# Altium integrated library Maxim Digital Potentiometers.IntLib: 1045 symbols (part 14 of 42)
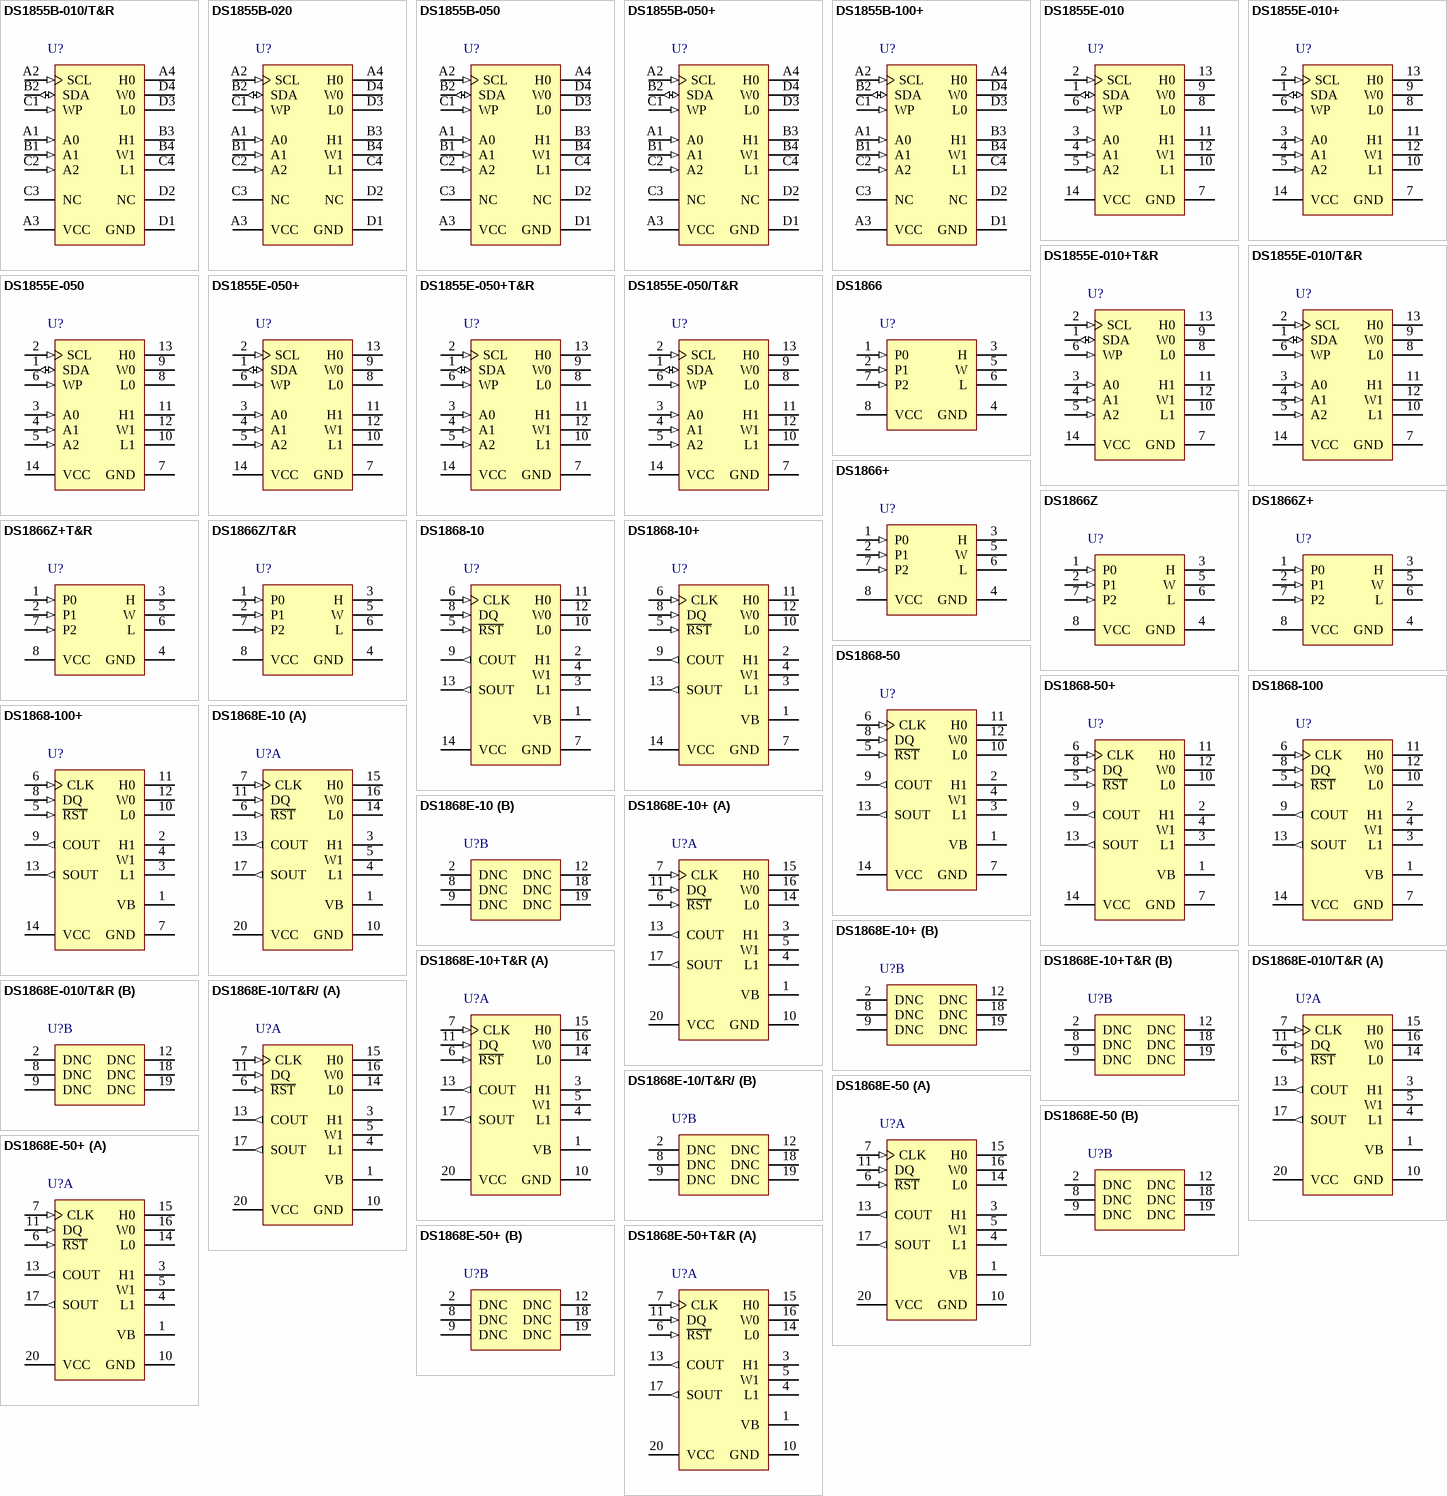
[diagram p42: symbols DS1855B-010/T&R to DS1868E-50+T&R]

## DS1868E-10+T&R
designator U?
Dual Digital Potentiometer Chip with 3-Wire Serial Control Interface, Volatile, Linear Taper, 256 Steps, -40 to 85 degC, 20-pin TSSOP (U20+1), Pb-Free, Tape and Reel; PartNumber: DS1868E-10+T&R; DatasheetVersion: Rev. 1; PackageVersion: Rev. L, 07/2010; PackageReference: U20+1; PackageDescription: 20-Pin Thin Shrink Small-Outline Package (U20+1), Body 6.5 x4.4 mm, Pitch 0.65 mm; Supplier 1: Digi-Key; Supplier Part Number 1: DS1868E-10+T&R-ND; Supplier 2: Mouser; Supplier Part Number 2: 700-DS1868E-10T&R; Control Interface: 3-Wire Serial; Mounting Technology: Surface Mount; Code_JEDEC: MO-153; ComponentLink1Description: Manufacturer URL; ComponentLink1URL: http://www.maximintegrated.com/; ComponentLink2Description: Datasheet; ComponentLink2URL: http://datasheets.maximintegrated.com/en/ds/DS1868.pdf; ComponentLink3Description: Package Specification; ComponentLink3URL: http://pdfserv.maximintegrated.com/package_dwgs/21-0066.PDF
footprint MAXM-U20+1_N (SOP, 20-Leads, Body 6.5x4.4mm, Pitch 0.65mm, IPC Medium Density)
footprint MAXM-U20+1_L (SOP, 20-Leads, Body 6.5x4.4mm, Pitch 0.65mm, IPC High Density)
footprint MAXM-U20+1_M (SOP, 20-Leads, Body 6.5x4.4mm, Pitch 0.65mm, IPC Low Density)
part A pins: 1 VB (power) "Substrate Bias Voltage", 3 H1 "High End of Resistor", 4 L1 "Low End of Resistor", 5 W1 "Wiper Terminal of Resistor", 6 ~{RST} (in) "Serial Port Reset Input", 7 CLK (in) "Serial Port Clock Input", 10 GND (power) "Ground Connections", 11 DQ (in) "Serial Port Data Input", 13 COUT (out) "Cascade Port Output", 14 L0 "Low End of Resistor", 15 H0 "High End of Resistor", 16 W0 "Wiper Terminal of Resistor", 17 SOUT (out) "Stacked Configuration Output", 20 VCC (power) "+5 Volt Supply"
part B pins: 2 DNC "Do Not Connect", 8 DNC "Do Not Connect", 9 DNC "Do Not Connect", 12 DNC "Do Not Connect", 18 DNC "Do Not Connect", 19 DNC "Do Not Connect"

## DS1868E-010/T&R
designator U?
Dual Digital Potentiometer Chip with 3-Wire Serial Control Interface, Volatile, Linear Taper, 256 Steps, -40 to 85 degC, 20-pin TSSOP (U20-1), Tape and Reel; PartNumber: DS1868E-010/T&R; DatasheetVersion: Rev. 1; PackageVersion: Rev. L, 07/2010; PackageReference: U20-1; PackageDescription: 20-Pin Thin Shrink Small-Outline Package (U20-1), Body 6.5 x 4.4 mm, Pitch 0.65 mm; Supplier 1: Digi-Key; Supplier Part Number 1: DS1868E-010/T&R-ND; Supplier 2: Mouser; Supplier Part Number 2: N/A; Control Interface: 3-Wire Serial; Mounting Technology: Surface Mount; Code_JEDEC: MO-153; ComponentLink1Description: Manufacturer URL; ComponentLink1URL: http://www.maximintegrated.com/; ComponentLink2Description: Datasheet; ComponentLink2URL: http://datasheets.maximintegrated.com/en/ds/DS1868.pdf; ComponentLink3Description: Package Specification; ComponentLink3URL: http://pdfserv.maximintegrated.com/package_dwgs/21-0066.PDF
footprint MAXM-U20-1_N (SOP, 20-Leads, Body 6.5x4.40mm, Pitch 0.65mm, IPC Medium Density)
footprint MAXM-U20-1_L (SOP, 20-Leads, Body 6.5x4.40mm, Pitch 0.65mm, IPC High Density)
footprint MAXM-U20-1_M (SOP, 20-Leads, Body 6.5x4.40mm, Pitch 0.65mm, IPC Low Density)
part A pins: 1 VB (power) "Substrate Bias Voltage", 3 H1 "High End of Resistor", 4 L1 "Low End of Resistor", 5 W1 "Wiper Terminal of Resistor", 6 ~{RST} (in) "Serial Port Reset Input", 7 CLK (in) "Serial Port Clock Input", 10 GND (power) "Ground Connections", 11 DQ (in) "Serial Port Data Input", 13 COUT (out) "Cascade Port Output", 14 L0 "Low End of Resistor", 15 H0 "High End of Resistor", 16 W0 "Wiper Terminal of Resistor", 17 SOUT (out) "Stacked Configuration Output", 20 VCC (power) "+5 Volt Supply"
part B pins: 2 DNC "Do Not Connect", 8 DNC "Do Not Connect", 9 DNC "Do Not Connect", 12 DNC "Do Not Connect", 18 DNC "Do Not Connect", 19 DNC "Do Not Connect"

## DS1868E-10/T&R/
designator U?
Dual Digital Potentiometer Chip with 3-Wire Serial Control Interface, Volatile, Linear Taper, 256 Steps, -40 to 85 degC, 20-pin TSSOP (U20-1), Tape and Reel; PartNumber: DS1868E-10/T&R/; DatasheetVersion: Rev. 1; PackageVersion: Rev. L, 07/2010; PackageReference: U20-1; PackageDescription: 20-Pin Thin Shrink Small-Outline Package (U20-1), Body 6.5 x 4.4 mm, Pitch 0.65 mm; Control Interface: 3-Wire Serial; Mounting Technology: Surface Mount; Code_JEDEC: MO-153; ComponentLink1Description: Manufacturer URL; ComponentLink1URL: http://www.maximintegrated.com/; ComponentLink2Description: Datasheet; ComponentLink2URL: http://datasheets.maximintegrated.com/en/ds/DS1868.pdf; ComponentLink3Description: Package Specification; ComponentLink3URL: http://pdfserv.maximintegrated.com/package_dwgs/21-0066.PDF
footprint MAXM-U20-1_N (SOP, 20-Leads, Body 6.5x4.40mm, Pitch 0.65mm, IPC Medium Density)
footprint MAXM-U20-1_L (SOP, 20-Leads, Body 6.5x4.40mm, Pitch 0.65mm, IPC High Density)
footprint MAXM-U20-1_M (SOP, 20-Leads, Body 6.5x4.40mm, Pitch 0.65mm, IPC Low Density)
part A pins: 1 VB (power) "Substrate Bias Voltage", 3 H1 "High End of Resistor", 4 L1 "Low End of Resistor", 5 W1 "Wiper Terminal of Resistor", 6 ~{RST} (in) "Serial Port Reset Input", 7 CLK (in) "Serial Port Clock Input", 10 GND (power) "Ground Connections", 11 DQ (in) "Serial Port Data Input", 13 COUT (out) "Cascade Port Output", 14 L0 "Low End of Resistor", 15 H0 "High End of Resistor", 16 W0 "Wiper Terminal of Resistor", 17 SOUT (out) "Stacked Configuration Output", 20 VCC (power) "+5 Volt Supply"
part B pins: 2 DNC "Do Not Connect", 8 DNC "Do Not Connect", 9 DNC "Do Not Connect", 12 DNC "Do Not Connect", 18 DNC "Do Not Connect", 19 DNC "Do Not Connect"

## DS1868E-50
designator U?
Dual Digital Potentiometer Chip with 3-Wire Serial Control Interface, Volatile, Linear Taper, 256 Steps, -40 to 85 degC, 20-pin TSSOP (U20-1); PartNumber: DS1868E-50; DatasheetVersion: Rev. 1; PackageVersion: Rev. L, 07/2010; PackageReference: U20-1; PackageDescription: 20-Pin Thin Shrink Small-Outline Package (U20-1), Body 6.5 x 4.4 mm, Pitch 0.65 mm; Supplier 1: Digi-Key; Supplier Part Number 1: DS1868E-50-ND; Supplier 2: Mouser; Supplier Part Number 2: N/A; Control Interface: 3-Wire Serial; Mounting Technology: Surface Mount; Code_JEDEC: MO-153; ComponentLink1Description: Manufacturer URL; ComponentLink1URL: http://www.maximintegrated.com/; ComponentLink2Description: Datasheet; ComponentLink2URL: http://datasheets.maximintegrated.com/en/ds/DS1868.pdf; ComponentLink3Description: Package Specification; ComponentLink3URL: http://pdfserv.maximintegrated.com/package_dwgs/21-0066.PDF
footprint MAXM-U20-1_N (SOP, 20-Leads, Body 6.5x4.40mm, Pitch 0.65mm, IPC Medium Density)
footprint MAXM-U20-1_L (SOP, 20-Leads, Body 6.5x4.40mm, Pitch 0.65mm, IPC High Density)
footprint MAXM-U20-1_M (SOP, 20-Leads, Body 6.5x4.40mm, Pitch 0.65mm, IPC Low Density)
part A pins: 1 VB (power) "Substrate Bias Voltage", 3 H1 "High End of Resistor", 4 L1 "Low End of Resistor", 5 W1 "Wiper Terminal of Resistor", 6 ~{RST} (in) "Serial Port Reset Input", 7 CLK (in) "Serial Port Clock Input", 10 GND (power) "Ground Connections", 11 DQ (in) "Serial Port Data Input", 13 COUT (out) "Cascade Port Output", 14 L0 "Low End of Resistor", 15 H0 "High End of Resistor", 16 W0 "Wiper Terminal of Resistor", 17 SOUT (out) "Stacked Configuration Output", 20 VCC (power) "+5 Volt Supply"
part B pins: 2 DNC "Do Not Connect", 8 DNC "Do Not Connect", 9 DNC "Do Not Connect", 12 DNC "Do Not Connect", 18 DNC "Do Not Connect", 19 DNC "Do Not Connect"

## DS1868E-50+
designator U?
Dual Digital Potentiometer Chip with 3-Wire Serial Control Interface, Volatile, Linear Taper, 256 Steps, -40 to 85 degC, 20-pin TSSOP (U20+1), Pb-Free; PartNumber: DS1868E-50+; DatasheetVersion: Rev. 1; PackageVersion: Rev. L, 07/2010; PackageReference: U20+1; PackageDescription: 20-Pin Thin Shrink Small-Outline Package (U20+1), Body 6.5 x4.4 mm, Pitch 0.65 mm; Supplier 1: Digi-Key; Supplier Part Number 1: DS1868E-50+-ND; Supplier 2: Mouser; Supplier Part Number 2: 700-DS1868E-50; Control Interface: 3-Wire Serial; Mounting Technology: Surface Mount; Code_JEDEC: MO-153; ComponentLink1Description: Manufacturer URL; ComponentLink1URL: http://www.maximintegrated.com/; ComponentLink2Description: Datasheet; ComponentLink2URL: http://datasheets.maximintegrated.com/en/ds/DS1868.pdf; ComponentLink3Description: Package Specification; ComponentLink3URL: http://pdfserv.maximintegrated.com/package_dwgs/21-0066.PDF
footprint MAXM-U20+1_N (SOP, 20-Leads, Body 6.5x4.4mm, Pitch 0.65mm, IPC Medium Density)
footprint MAXM-U20+1_L (SOP, 20-Leads, Body 6.5x4.4mm, Pitch 0.65mm, IPC High Density)
footprint MAXM-U20+1_M (SOP, 20-Leads, Body 6.5x4.4mm, Pitch 0.65mm, IPC Low Density)
part A pins: 1 VB (power) "Substrate Bias Voltage", 3 H1 "High End of Resistor", 4 L1 "Low End of Resistor", 5 W1 "Wiper Terminal of Resistor", 6 ~{RST} (in) "Serial Port Reset Input", 7 CLK (in) "Serial Port Clock Input", 10 GND (power) "Ground Connections", 11 DQ (in) "Serial Port Data Input", 13 COUT (out) "Cascade Port Output", 14 L0 "Low End of Resistor", 15 H0 "High End of Resistor", 16 W0 "Wiper Terminal of Resistor", 17 SOUT (out) "Stacked Configuration Output", 20 VCC (power) "+5 Volt Supply"
part B pins: 2 DNC "Do Not Connect", 8 DNC "Do Not Connect", 9 DNC "Do Not Connect", 12 DNC "Do Not Connect", 18 DNC "Do Not Connect", 19 DNC "Do Not Connect"

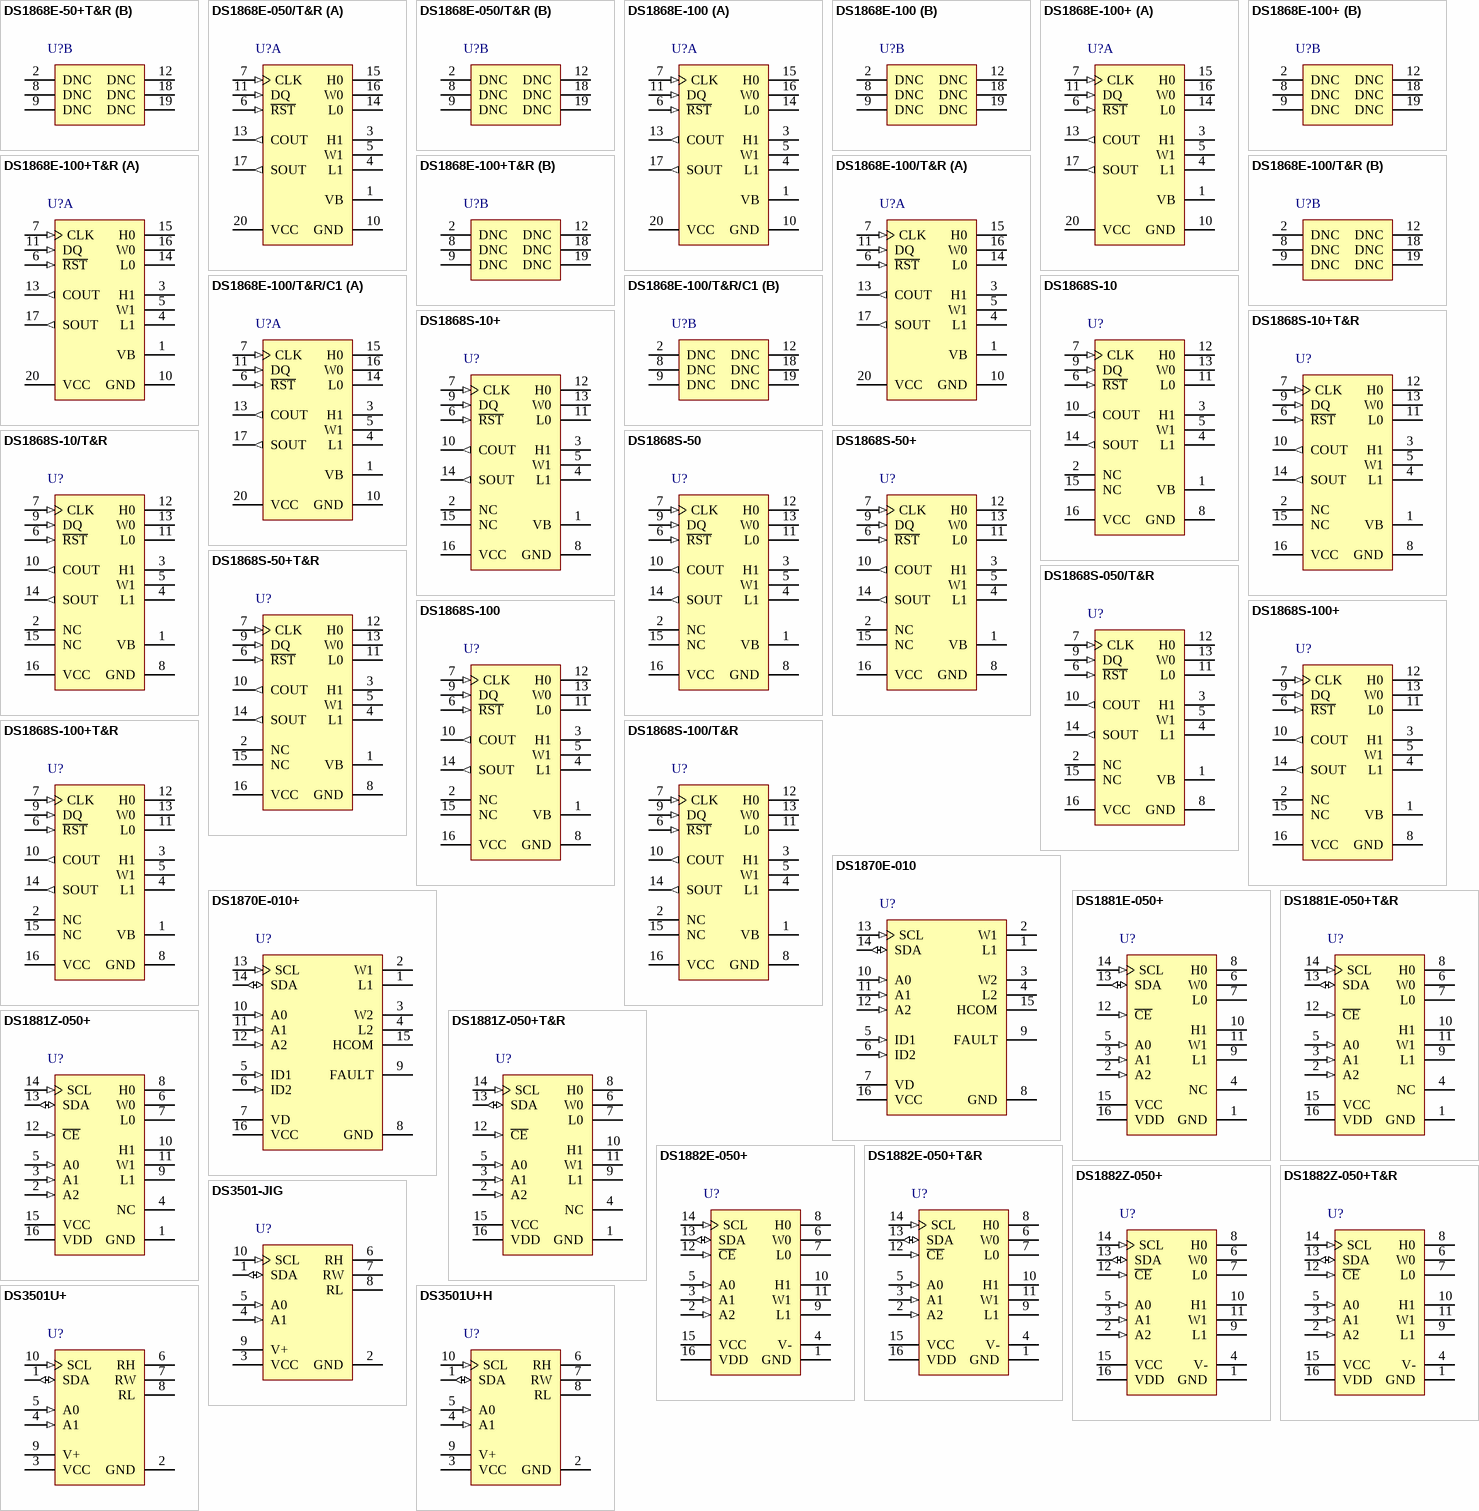
[diagram p10: symbols DS1868E-50+T&R to DS3501U+H]

## DS1868E-50+T&R
designator U?
Dual Digital Potentiometer Chip with 3-Wire Serial Control Interface, Volatile, Linear Taper, 256 Steps, -40 to 85 degC, 20-pin TSSOP (U20+1), Pb-Free, Tape and Reel; PartNumber: DS1868E-50+T&R; DatasheetVersion: Rev. 1; PackageVersion: Rev. L, 07/2010; PackageReference: U20+1; PackageDescription: 20-Pin Thin Shrink Small-Outline Package (U20+1), Body 6.5 x4.4 mm, Pitch 0.65 mm; Supplier 1: Digi-Key; Supplier Part Number 1: DS1868E-50+T&R-ND; Supplier 2: Mouser; Supplier Part Number 2: 700-DS1868E-50T&R; Control Interface: 3-Wire Serial; Mounting Technology: Surface Mount; Code_JEDEC: MO-153; ComponentLink1Description: Manufacturer URL; ComponentLink1URL: http://www.maximintegrated.com/; ComponentLink2Description: Datasheet; ComponentLink2URL: http://datasheets.maximintegrated.com/en/ds/DS1868.pdf; ComponentLink3Description: Package Specification; ComponentLink3URL: http://pdfserv.maximintegrated.com/package_dwgs/21-0066.PDF
footprint MAXM-U20+1_N (SOP, 20-Leads, Body 6.5x4.4mm, Pitch 0.65mm, IPC Medium Density)
footprint MAXM-U20+1_L (SOP, 20-Leads, Body 6.5x4.4mm, Pitch 0.65mm, IPC High Density)
footprint MAXM-U20+1_M (SOP, 20-Leads, Body 6.5x4.4mm, Pitch 0.65mm, IPC Low Density)
part A pins: 1 VB (power) "Substrate Bias Voltage", 3 H1 "High End of Resistor", 4 L1 "Low End of Resistor", 5 W1 "Wiper Terminal of Resistor", 6 ~{RST} (in) "Serial Port Reset Input", 7 CLK (in) "Serial Port Clock Input", 10 GND (power) "Ground Connections", 11 DQ (in) "Serial Port Data Input", 13 COUT (out) "Cascade Port Output", 14 L0 "Low End of Resistor", 15 H0 "High End of Resistor", 16 W0 "Wiper Terminal of Resistor", 17 SOUT (out) "Stacked Configuration Output", 20 VCC (power) "+5 Volt Supply"
part B pins: 2 DNC "Do Not Connect", 8 DNC "Do Not Connect", 9 DNC "Do Not Connect", 12 DNC "Do Not Connect", 18 DNC "Do Not Connect", 19 DNC "Do Not Connect"

## DS1868E-050/T&R
designator U?
Dual Digital Potentiometer Chip with 3-Wire Serial Control Interface, Volatile, Linear Taper, 256 Steps, -40 to 85 degC, 20-pin TSSOP (U20-1), Tape and Reel; PartNumber: DS1868E-050/T&R; DatasheetVersion: Rev. 1; PackageVersion: Rev. L, 07/2010; PackageReference: U20-1; PackageDescription: 20-Pin Thin Shrink Small-Outline Package (U20-1), Body 6.5 x 4.4 mm, Pitch 0.65 mm; Supplier 1: Mouser; Supplier Part Number 1: N/A; Control Interface: 3-Wire Serial; Mounting Technology: Surface Mount; Code_JEDEC: MO-153; ComponentLink1Description: Manufacturer URL; ComponentLink1URL: http://www.maximintegrated.com/; ComponentLink2Description: Datasheet; ComponentLink2URL: http://datasheets.maximintegrated.com/en/ds/DS1868.pdf; ComponentLink3Description: Package Specification; ComponentLink3URL: http://pdfserv.maximintegrated.com/package_dwgs/21-0066.PDF
footprint MAXM-U20-1_N (SOP, 20-Leads, Body 6.5x4.40mm, Pitch 0.65mm, IPC Medium Density)
footprint MAXM-U20-1_L (SOP, 20-Leads, Body 6.5x4.40mm, Pitch 0.65mm, IPC High Density)
footprint MAXM-U20-1_M (SOP, 20-Leads, Body 6.5x4.40mm, Pitch 0.65mm, IPC Low Density)
part A pins: 1 VB (power) "Substrate Bias Voltage", 3 H1 "High End of Resistor", 4 L1 "Low End of Resistor", 5 W1 "Wiper Terminal of Resistor", 6 ~{RST} (in) "Serial Port Reset Input", 7 CLK (in) "Serial Port Clock Input", 10 GND (power) "Ground Connections", 11 DQ (in) "Serial Port Data Input", 13 COUT (out) "Cascade Port Output", 14 L0 "Low End of Resistor", 15 H0 "High End of Resistor", 16 W0 "Wiper Terminal of Resistor", 17 SOUT (out) "Stacked Configuration Output", 20 VCC (power) "+5 Volt Supply"
part B pins: 2 DNC "Do Not Connect", 8 DNC "Do Not Connect", 9 DNC "Do Not Connect", 12 DNC "Do Not Connect", 18 DNC "Do Not Connect", 19 DNC "Do Not Connect"

## DS1868E-100
designator U?
Dual Digital Potentiometer Chip with 3-Wire Serial Control Interface, Volatile, Linear Taper, 256 Steps, -40 to 85 degC, 20-pin TSSOP (U20-1); PartNumber: DS1868E-100; DatasheetVersion: Rev. 1; PackageVersion: Rev. L, 07/2010; PackageReference: U20-1; PackageDescription: 20-Pin Thin Shrink Small-Outline Package (U20-1), Body 6.5 x 4.4 mm, Pitch 0.65 mm; Supplier 1: Digi-Key; Supplier Part Number 1: DS1868E-100-ND; Supplier 2: Mouser; Supplier Part Number 2: N/A; Control Interface: 3-Wire Serial; Mounting Technology: Surface Mount; Code_JEDEC: MO-153; ComponentLink1Description: Manufacturer URL; ComponentLink1URL: http://www.maximintegrated.com/; ComponentLink2Description: Datasheet; ComponentLink2URL: http://datasheets.maximintegrated.com/en/ds/DS1868.pdf; ComponentLink3Description: Package Specification; ComponentLink3URL: http://pdfserv.maximintegrated.com/package_dwgs/21-0066.PDF
footprint MAXM-U20-1_N (SOP, 20-Leads, Body 6.5x4.40mm, Pitch 0.65mm, IPC Medium Density)
footprint MAXM-U20-1_L (SOP, 20-Leads, Body 6.5x4.40mm, Pitch 0.65mm, IPC High Density)
footprint MAXM-U20-1_M (SOP, 20-Leads, Body 6.5x4.40mm, Pitch 0.65mm, IPC Low Density)
part A pins: 1 VB (power) "Substrate Bias Voltage", 3 H1 "High End of Resistor", 4 L1 "Low End of Resistor", 5 W1 "Wiper Terminal of Resistor", 6 ~{RST} (in) "Serial Port Reset Input", 7 CLK (in) "Serial Port Clock Input", 10 GND (power) "Ground Connections", 11 DQ (in) "Serial Port Data Input", 13 COUT (out) "Cascade Port Output", 14 L0 "Low End of Resistor", 15 H0 "High End of Resistor", 16 W0 "Wiper Terminal of Resistor", 17 SOUT (out) "Stacked Configuration Output", 20 VCC (power) "+5 Volt Supply"
part B pins: 2 DNC "Do Not Connect", 8 DNC "Do Not Connect", 9 DNC "Do Not Connect", 12 DNC "Do Not Connect", 18 DNC "Do Not Connect", 19 DNC "Do Not Connect"

## DS1868E-100+
designator U?
Dual Digital Potentiometer Chip with 3-Wire Serial Control Interface, Volatile, Linear Taper, 256 Steps, -40 to 85 degC, 20-pin TSSOP (U20+1), Pb-Free; PartNumber: DS1868E-100+; DatasheetVersion: Rev. 1; PackageVersion: Rev. L, 07/2010; PackageReference: U20+1; PackageDescription: 20-Pin Thin Shrink Small-Outline Package (U20+1), Body 6.5 x4.4 mm, Pitch 0.65 mm; Supplier 1: Digi-Key; Supplier Part Number 1: DS1868E-100+-ND; Supplier 2: Mouser; Supplier Part Number 2: 700-DS1868E-100; Control Interface: 3-Wire Serial; Mounting Technology: Surface Mount; Code_JEDEC: MO-153; ComponentLink1Description: Manufacturer URL; ComponentLink1URL: http://www.maximintegrated.com/; ComponentLink2Description: Datasheet; ComponentLink2URL: http://datasheets.maximintegrated.com/en/ds/DS1868.pdf; ComponentLink3Description: Package Specification; ComponentLink3URL: http://pdfserv.maximintegrated.com/package_dwgs/21-0066.PDF
footprint MAXM-U20+1_N (SOP, 20-Leads, Body 6.5x4.4mm, Pitch 0.65mm, IPC Medium Density)
footprint MAXM-U20+1_L (SOP, 20-Leads, Body 6.5x4.4mm, Pitch 0.65mm, IPC High Density)
footprint MAXM-U20+1_M (SOP, 20-Leads, Body 6.5x4.4mm, Pitch 0.65mm, IPC Low Density)
part A pins: 1 VB (power) "Substrate Bias Voltage", 3 H1 "High End of Resistor", 4 L1 "Low End of Resistor", 5 W1 "Wiper Terminal of Resistor", 6 ~{RST} (in) "Serial Port Reset Input", 7 CLK (in) "Serial Port Clock Input", 10 GND (power) "Ground Connections", 11 DQ (in) "Serial Port Data Input", 13 COUT (out) "Cascade Port Output", 14 L0 "Low End of Resistor", 15 H0 "High End of Resistor", 16 W0 "Wiper Terminal of Resistor", 17 SOUT (out) "Stacked Configuration Output", 20 VCC (power) "+5 Volt Supply"
part B pins: 2 DNC "Do Not Connect", 8 DNC "Do Not Connect", 9 DNC "Do Not Connect", 12 DNC "Do Not Connect", 18 DNC "Do Not Connect", 19 DNC "Do Not Connect"

## DS1868E-100+T&R
designator U?
Dual Digital Potentiometer Chip with 3-Wire Serial Control Interface, Volatile, Linear Taper, 256 Steps, -40 to 85 degC, 20-pin TSSOP (U20+1), Pb-Free, Tape and Reel; PartNumber: DS1868E-100+T&R; DatasheetVersion: Rev. 1; PackageVersion: Rev. L, 07/2010; PackageReference: U20+1; PackageDescription: 20-Pin Thin Shrink Small-Outline Package (U20+1), Body 6.5 x4.4 mm, Pitch 0.65 mm; Supplier 1: Digi-Key; Supplier Part Number 1: DS1868E-100+T&R-ND; Supplier 2: Mouser; Supplier Part Number 2: 700-DS1868E-100T&R; Control Interface: 3-Wire Serial; Mounting Technology: Surface Mount; Code_JEDEC: MO-153; ComponentLink1Description: Manufacturer URL; ComponentLink1URL: http://www.maximintegrated.com/; ComponentLink2Description: Datasheet; ComponentLink2URL: http://datasheets.maximintegrated.com/en/ds/DS1868.pdf; ComponentLink3Description: Package Specification; ComponentLink3URL: http://pdfserv.maximintegrated.com/package_dwgs/21-0066.PDF
footprint MAXM-U20+1_N (SOP, 20-Leads, Body 6.5x4.4mm, Pitch 0.65mm, IPC Medium Density)
footprint MAXM-U20+1_L (SOP, 20-Leads, Body 6.5x4.4mm, Pitch 0.65mm, IPC High Density)
footprint MAXM-U20+1_M (SOP, 20-Leads, Body 6.5x4.4mm, Pitch 0.65mm, IPC Low Density)
part A pins: 1 VB (power) "Substrate Bias Voltage", 3 H1 "High End of Resistor", 4 L1 "Low End of Resistor", 5 W1 "Wiper Terminal of Resistor", 6 ~{RST} (in) "Serial Port Reset Input", 7 CLK (in) "Serial Port Clock Input", 10 GND (power) "Ground Connections", 11 DQ (in) "Serial Port Data Input", 13 COUT (out) "Cascade Port Output", 14 L0 "Low End of Resistor", 15 H0 "High End of Resistor", 16 W0 "Wiper Terminal of Resistor", 17 SOUT (out) "Stacked Configuration Output", 20 VCC (power) "+5 Volt Supply"
part B pins: 2 DNC "Do Not Connect", 8 DNC "Do Not Connect", 9 DNC "Do Not Connect", 12 DNC "Do Not Connect", 18 DNC "Do Not Connect", 19 DNC "Do Not Connect"

## DS1868E-100/T&R
designator U?
Dual Digital Potentiometer Chip with 3-Wire Serial Control Interface, Volatile, Linear Taper, 256 Steps, -40 to 85 degC, 20-pin TSSOP (U20-1), Tape and Reel; PartNumber: DS1868E-100/T&R; DatasheetVersion: Rev. 1; PackageVersion: Rev. L, 07/2010; PackageReference: U20-1; PackageDescription: 20-Pin Thin Shrink Small-Outline Package (U20-1), Body 6.5 x 4.4 mm, Pitch 0.65 mm; Supplier 1: Digi-Key; Supplier Part Number 1: DS1868E-100/T&R-ND; Supplier 2: Mouser; Supplier Part Number 2: N/A; Control Interface: 3-Wire Serial; Mounting Technology: Surface Mount; Code_JEDEC: MO-153; ComponentLink1Description: Manufacturer URL; ComponentLink1URL: http://www.maximintegrated.com/; ComponentLink2Description: Datasheet; ComponentLink2URL: http://datasheets.maximintegrated.com/en/ds/DS1868.pdf; ComponentLink3Description: Package Specification; ComponentLink3URL: http://pdfserv.maximintegrated.com/package_dwgs/21-0066.PDF
footprint MAXM-U20-1_N (SOP, 20-Leads, Body 6.5x4.40mm, Pitch 0.65mm, IPC Medium Density)
footprint MAXM-U20-1_L (SOP, 20-Leads, Body 6.5x4.40mm, Pitch 0.65mm, IPC High Density)
footprint MAXM-U20-1_M (SOP, 20-Leads, Body 6.5x4.40mm, Pitch 0.65mm, IPC Low Density)
part A pins: 1 VB (power) "Substrate Bias Voltage", 3 H1 "High End of Resistor", 4 L1 "Low End of Resistor", 5 W1 "Wiper Terminal of Resistor", 6 ~{RST} (in) "Serial Port Reset Input", 7 CLK (in) "Serial Port Clock Input", 10 GND (power) "Ground Connections", 11 DQ (in) "Serial Port Data Input", 13 COUT (out) "Cascade Port Output", 14 L0 "Low End of Resistor", 15 H0 "High End of Resistor", 16 W0 "Wiper Terminal of Resistor", 17 SOUT (out) "Stacked Configuration Output", 20 VCC (power) "+5 Volt Supply"
part B pins: 2 DNC "Do Not Connect", 8 DNC "Do Not Connect", 9 DNC "Do Not Connect", 12 DNC "Do Not Connect", 18 DNC "Do Not Connect", 19 DNC "Do Not Connect"

## DS1868E-100/T&R/C1
designator U?
Dual Digital Potentiometer Chip with 3-Wire Serial Control Interface, Volatile, Linear Taper, 256 Steps, -40 to 85 degC, 20-pin TSSOP (U20-1), Tape and Reel; PartNumber: DS1868E-100/T&R/C1; DatasheetVersion: Rev. 1; PackageVersion: Rev. L, 07/2010; PackageReference: U20-1; PackageDescription: 20-Pin Thin Shrink Small-Outline Package (U20-1), Body 6.5 x 4.4 mm, Pitch 0.65 mm; Supplier 1: Mouser; Supplier Part Number 1: N/A; Control Interface: 3-Wire Serial; Mounting Technology: Surface Mount; Code_JEDEC: MO-153; ComponentLink1Description: Manufacturer URL; ComponentLink1URL: http://www.maximintegrated.com/; ComponentLink2Description: Datasheet; ComponentLink2URL: http://datasheets.maximintegrated.com/en/ds/DS1868.pdf; ComponentLink3Description: Package Specification; ComponentLink3URL: http://pdfserv.maximintegrated.com/package_dwgs/21-0066.PDF
footprint MAXM-U20-1_N (SOP, 20-Leads, Body 6.5x4.40mm, Pitch 0.65mm, IPC Medium Density)
footprint MAXM-U20-1_L (SOP, 20-Leads, Body 6.5x4.40mm, Pitch 0.65mm, IPC High Density)
footprint MAXM-U20-1_M (SOP, 20-Leads, Body 6.5x4.40mm, Pitch 0.65mm, IPC Low Density)
part A pins: 1 VB (power) "Substrate Bias Voltage", 3 H1 "High End of Resistor", 4 L1 "Low End of Resistor", 5 W1 "Wiper Terminal of Resistor", 6 ~{RST} (in) "Serial Port Reset Input", 7 CLK (in) "Serial Port Clock Input", 10 GND (power) "Ground Connections", 11 DQ (in) "Serial Port Data Input", 13 COUT (out) "Cascade Port Output", 14 L0 "Low End of Resistor", 15 H0 "High End of Resistor", 16 W0 "Wiper Terminal of Resistor", 17 SOUT (out) "Stacked Configuration Output", 20 VCC (power) "+5 Volt Supply"
part B pins: 2 DNC "Do Not Connect", 8 DNC "Do Not Connect", 9 DNC "Do Not Connect", 12 DNC "Do Not Connect", 18 DNC "Do Not Connect", 19 DNC "Do Not Connect"

## DS1868S-10
designator U?
Dual Digital Potentiometer Chip with 3-Wire Serial Control Interface, Volatile, Linear Taper, 256 Steps, -40 to 85 degC, 16-pin SOIC (W16-2); PartNumber: DS1868S-10; DatasheetVersion: Rev. 1; PackageVersion: Rev. F, 10/2012; PackageReference: W16-2; PackageDescription: 16-Pin Small-Outline IC, Wide (0.3in) (W16-2), Body 10.3 x 7.5 mm, Pitch 1.27 mm; Supplier 1: Digi-Key; Supplier Part Number 1: DS1868S-10-ND; Supplier 2: Mouser; Supplier Part Number 2: N/A; Control Interface: 3-Wire Serial; Mounting Technology: Surface Mount; Code_JEDEC: MS013; ComponentLink1Description: Manufacturer URL; ComponentLink1URL: http://www.maximintegrated.com/; ComponentLink2Description: Datasheet; ComponentLink2URL: http://datasheets.maximintegrated.com/en/ds/DS1868.pdf; ComponentLink3Description: Package Specification; ComponentLink3URL: http://pdfserv.maximintegrated.com/package_dwgs/21-0042.PDF
footprint MAXM-W16-2_N (SOIC, 16-Leads, Body 10.3x7.5mm, Pitch 1.27mm, IPC Medium Density)
footprint MAXM-W16-2_L (SOIC, 16-Leads, Body 10.3x7.5mm, Pitch 1.27mm, IPC High Density)
footprint MAXM-W16-2_M (SOIC, 16-Leads, Body 10.3x7.5mm, Pitch 1.27mm, IPC Low Density)
pins: 1 VB (power) "Substrate Bias Voltage", 2 NC "No Internal Connection", 3 H1 "High End of Resistor", 4 L1 "Low End of Resistor", 5 W1 "Wiper Terminal of Resistor", 6 ~{RST} (in) "Serial Port Reset Input", 7 CLK (in) "Serial Port Clock Input", 8 GND (power) "Ground Connections", 9 DQ (in) "Serial Port Data Input", 10 COUT (out) "Cascade Port Output", 11 L0 "Low End of Resistor", 12 H0 "High End of Resistor", 13 W0 "Wiper Terminal of Resistor", 14 SOUT (out) "Stacked Configuration Output", 15 NC "No Internal Connection", 16 VCC (power) "+5 Volt Supply"

## DS1868S-10+
designator U?
Dual Digital Potentiometer Chip with 3-Wire Serial Control Interface, Volatile, Linear Taper, 256 Steps, -40 to 85 degC, 16-pin SOIC (W16+2), Pb-Free; PartNumber: DS1868S-10+; DatasheetVersion: Rev. 1; PackageVersion: Rev. F, 10/2012; PackageReference: W16+2; PackageDescription: 16-Pin Small-Outline IC, Wide (0.3in) (W16+2), Body 10.3 x 7.5 mm, Pitch 1.27 mm; Supplier 1: Digi-Key; Supplier Part Number 1: DS1868S-10+-ND; Supplier 2: Mouser; Supplier Part Number 2: 700-DS1868S-10; Control Interface: 3-Wire Serial; Mounting Technology: Surface Mount; Code_JEDEC: MS013; ComponentLink1Description: Manufacturer URL; ComponentLink1URL: http://www.maximintegrated.com/; ComponentLink2Description: Datasheet; ComponentLink2URL: http://datasheets.maximintegrated.com/en/ds/DS1868.pdf; ComponentLink3Description: Package Specification; ComponentLink3URL: http://pdfserv.maximintegrated.com/package_dwgs/21-0042.PDF
footprint MAXM-W16+2_N (SOIC, 16-Leads, Body 10.3x7.5mm, Pitch 1.27mm, IPC Medium Density)
footprint MAXM-W16+2_L (SOIC, 16-Leads, Body 10.3x7.5mm, Pitch 1.27mm, IPC High Density)
footprint MAXM-W16+2_M (SOIC, 16-Leads, Body 10.3x7.5mm, Pitch 1.27mm, IPC Low Density)
pins: 1 VB (power) "Substrate Bias Voltage", 2 NC "No Internal Connection", 3 H1 "High End of Resistor", 4 L1 "Low End of Resistor", 5 W1 "Wiper Terminal of Resistor", 6 ~{RST} (in) "Serial Port Reset Input", 7 CLK (in) "Serial Port Clock Input", 8 GND (power) "Ground Connections", 9 DQ (in) "Serial Port Data Input", 10 COUT (out) "Cascade Port Output", 11 L0 "Low End of Resistor", 12 H0 "High End of Resistor", 13 W0 "Wiper Terminal of Resistor", 14 SOUT (out) "Stacked Configuration Output", 15 NC "No Internal Connection", 16 VCC (power) "+5 Volt Supply"

## DS1868S-10+T&R
designator U?
Dual Digital Potentiometer Chip with 3-Wire Serial Control Interface, Volatile, Linear Taper, 256 Steps, -40 to 85 degC, 16-pin SOIC (W16+2), Pb-Free, Tape and Reel; PartNumber: DS1868S-10+T&R; DatasheetVersion: Rev. 1; PackageVersion: Rev. F, 10/2012; PackageReference: W16+2; PackageDescription: 16-Pin Small-Outline IC, Wide (0.3in) (W16+2), Body 10.3 x 7.5 mm, Pitch 1.27 mm; Supplier 1: Digi-Key; Supplier Part Number 1: DS1868S-10+T&R-ND; Supplier 2: Mouser; Supplier Part Number 2: 700-DS1868S-10T&R; Control Interface: 3-Wire Serial; Mounting Technology: Surface Mount; Code_JEDEC: MS013; ComponentLink1Description: Manufacturer URL; ComponentLink1URL: http://www.maximintegrated.com/; ComponentLink2Description: Datasheet; ComponentLink2URL: http://datasheets.maximintegrated.com/en/ds/DS1868.pdf; ComponentLink3Description: Package Specification; ComponentLink3URL: http://pdfserv.maximintegrated.com/package_dwgs/21-0042.PDF
footprint MAXM-W16+2_N (SOIC, 16-Leads, Body 10.3x7.5mm, Pitch 1.27mm, IPC Medium Density)
footprint MAXM-W16+2_L (SOIC, 16-Leads, Body 10.3x7.5mm, Pitch 1.27mm, IPC High Density)
footprint MAXM-W16+2_M (SOIC, 16-Leads, Body 10.3x7.5mm, Pitch 1.27mm, IPC Low Density)
pins: 1 VB (power) "Substrate Bias Voltage", 2 NC "No Internal Connection", 3 H1 "High End of Resistor", 4 L1 "Low End of Resistor", 5 W1 "Wiper Terminal of Resistor", 6 ~{RST} (in) "Serial Port Reset Input", 7 CLK (in) "Serial Port Clock Input", 8 GND (power) "Ground Connections", 9 DQ (in) "Serial Port Data Input", 10 COUT (out) "Cascade Port Output", 11 L0 "Low End of Resistor", 12 H0 "High End of Resistor", 13 W0 "Wiper Terminal of Resistor", 14 SOUT (out) "Stacked Configuration Output", 15 NC "No Internal Connection", 16 VCC (power) "+5 Volt Supply"

## DS1868S-10/T&R
designator U?
Dual Digital Potentiometer Chip with 3-Wire Serial Control Interface, Volatile, Linear Taper, 256 Steps, -40 to 85 degC, 16-pin SOIC (W16-2), Tape and Reel; PartNumber: DS1868S-10/T&R; DatasheetVersion: Rev. 1; PackageVersion: Rev. F, 10/2012; PackageReference: W16-2; PackageDescription: 16-Pin Small-Outline IC, Wide (0.3in) (W16-2), Body 10.3 x 7.5 mm, Pitch 1.27 mm; Supplier 1: Digi-Key; Supplier Part Number 1: DS1868S-10/T&R-ND; Supplier 2: Mouser; Supplier Part Number 2: N/A; Control Interface: 3-Wire Serial; Mounting Technology: Surface Mount; Code_JEDEC: MS013; ComponentLink1Description: Manufacturer URL; ComponentLink1URL: http://www.maximintegrated.com/; ComponentLink2Description: Datasheet; ComponentLink2URL: http://datasheets.maximintegrated.com/en/ds/DS1868.pdf; ComponentLink3Description: Package Specification; ComponentLink3URL: http://pdfserv.maximintegrated.com/package_dwgs/21-0042.PDF
footprint MAXM-W16-2_N (SOIC, 16-Leads, Body 10.3x7.5mm, Pitch 1.27mm, IPC Medium Density)
footprint MAXM-W16-2_L (SOIC, 16-Leads, Body 10.3x7.5mm, Pitch 1.27mm, IPC High Density)
footprint MAXM-W16-2_M (SOIC, 16-Leads, Body 10.3x7.5mm, Pitch 1.27mm, IPC Low Density)
pins: 1 VB (power) "Substrate Bias Voltage", 2 NC "No Internal Connection", 3 H1 "High End of Resistor", 4 L1 "Low End of Resistor", 5 W1 "Wiper Terminal of Resistor", 6 ~{RST} (in) "Serial Port Reset Input", 7 CLK (in) "Serial Port Clock Input", 8 GND (power) "Ground Connections", 9 DQ (in) "Serial Port Data Input", 10 COUT (out) "Cascade Port Output", 11 L0 "Low End of Resistor", 12 H0 "High End of Resistor", 13 W0 "Wiper Terminal of Resistor", 14 SOUT (out) "Stacked Configuration Output", 15 NC "No Internal Connection", 16 VCC (power) "+5 Volt Supply"

## DS1868S-50
designator U?
Dual Digital Potentiometer Chip with 3-Wire Serial Control Interface, Volatile, Linear Taper, 256 Steps, -40 to 85 degC, 16-pin SOIC (W16-2); PartNumber: DS1868S-50; DatasheetVersion: Rev. 1; PackageVersion: Rev. F, 10/2012; PackageReference: W16-2; PackageDescription: 16-Pin Small-Outline IC, Wide (0.3in) (W16-2), Body 10.3 x 7.5 mm, Pitch 1.27 mm; Supplier 1: Digi-Key; Supplier Part Number 1: DS1868S-50-ND; Supplier 2: Mouser; Supplier Part Number 2: N/A; Control Interface: 3-Wire Serial; Mounting Technology: Surface Mount; Code_JEDEC: MS013; ComponentLink1Description: Manufacturer URL; ComponentLink1URL: http://www.maximintegrated.com/; ComponentLink2Description: Datasheet; ComponentLink2URL: http://datasheets.maximintegrated.com/en/ds/DS1868.pdf; ComponentLink3Description: Package Specification; ComponentLink3URL: http://pdfserv.maximintegrated.com/package_dwgs/21-0042.PDF
footprint MAXM-W16-2_N (SOIC, 16-Leads, Body 10.3x7.5mm, Pitch 1.27mm, IPC Medium Density)
footprint MAXM-W16-2_L (SOIC, 16-Leads, Body 10.3x7.5mm, Pitch 1.27mm, IPC High Density)
footprint MAXM-W16-2_M (SOIC, 16-Leads, Body 10.3x7.5mm, Pitch 1.27mm, IPC Low Density)
pins: 1 VB (power) "Substrate Bias Voltage", 2 NC "No Internal Connection", 3 H1 "High End of Resistor", 4 L1 "Low End of Resistor", 5 W1 "Wiper Terminal of Resistor", 6 ~{RST} (in) "Serial Port Reset Input", 7 CLK (in) "Serial Port Clock Input", 8 GND (power) "Ground Connections", 9 DQ (in) "Serial Port Data Input", 10 COUT (out) "Cascade Port Output", 11 L0 "Low End of Resistor", 12 H0 "High End of Resistor", 13 W0 "Wiper Terminal of Resistor", 14 SOUT (out) "Stacked Configuration Output", 15 NC "No Internal Connection", 16 VCC (power) "+5 Volt Supply"

## DS1868S-50+
designator U?
Dual Digital Potentiometer Chip with 3-Wire Serial Control Interface, Volatile, Linear Taper, 256 Steps, -40 to 85 degC, 16-pin SOIC (W16+2), Pb-Free; PartNumber: DS1868S-50+; DatasheetVersion: Rev. 1; PackageVersion: Rev. F, 10/2012; PackageReference: W16+2; PackageDescription: 16-Pin Small-Outline IC, Wide (0.3in) (W16+2), Body 10.3 x 7.5 mm, Pitch 1.27 mm; Supplier 1: Digi-Key; Supplier Part Number 1: DS1868S-50+-ND; Supplier 2: Mouser; Supplier Part Number 2: 700-DS1868S-50; Control Interface: 3-Wire Serial; Mounting Technology: Surface Mount; Code_JEDEC: MS013; ComponentLink1Description: Manufacturer URL; ComponentLink1URL: http://www.maximintegrated.com/; ComponentLink2Description: Datasheet; ComponentLink2URL: http://datasheets.maximintegrated.com/en/ds/DS1868.pdf; ComponentLink3Description: Package Specification; ComponentLink3URL: http://pdfserv.maximintegrated.com/package_dwgs/21-0042.PDF
footprint MAXM-W16+2_N (SOIC, 16-Leads, Body 10.3x7.5mm, Pitch 1.27mm, IPC Medium Density)
footprint MAXM-W16+2_L (SOIC, 16-Leads, Body 10.3x7.5mm, Pitch 1.27mm, IPC High Density)
footprint MAXM-W16+2_M (SOIC, 16-Leads, Body 10.3x7.5mm, Pitch 1.27mm, IPC Low Density)
pins: 1 VB (power) "Substrate Bias Voltage", 2 NC "No Internal Connection", 3 H1 "High End of Resistor", 4 L1 "Low End of Resistor", 5 W1 "Wiper Terminal of Resistor", 6 ~{RST} (in) "Serial Port Reset Input", 7 CLK (in) "Serial Port Clock Input", 8 GND (power) "Ground Connections", 9 DQ (in) "Serial Port Data Input", 10 COUT (out) "Cascade Port Output", 11 L0 "Low End of Resistor", 12 H0 "High End of Resistor", 13 W0 "Wiper Terminal of Resistor", 14 SOUT (out) "Stacked Configuration Output", 15 NC "No Internal Connection", 16 VCC (power) "+5 Volt Supply"

## DS1868S-50+T&R
designator U?
Dual Digital Potentiometer Chip with 3-Wire Serial Control Interface, Volatile, Linear Taper, 256 Steps, -40 to 85 degC, 16-pin SOIC (W16+2), Pb-Free, Tape and Reel; PartNumber: DS1868S-50+T&R; DatasheetVersion: Rev. 1; PackageVersion: Rev. F, 10/2012; PackageReference: W16+2; PackageDescription: 16-Pin Small-Outline IC, Wide (0.3in) (W16+2), Body 10.3 x 7.5 mm, Pitch 1.27 mm; Supplier 1: Digi-Key; Supplier Part Number 1: DS1868S-50+T&R-ND; Supplier 2: Mouser; Supplier Part Number 2: 700-DS1868S-50T&R; Control Interface: 3-Wire Serial; Mounting Technology: Surface Mount; Code_JEDEC: MS013; ComponentLink1Description: Manufacturer URL; ComponentLink1URL: http://www.maximintegrated.com/; ComponentLink2Description: Datasheet; ComponentLink2URL: http://datasheets.maximintegrated.com/en/ds/DS1868.pdf; ComponentLink3Description: Package Specification; ComponentLink3URL: http://pdfserv.maximintegrated.com/package_dwgs/21-0042.PDF
footprint MAXM-W16+2_N (SOIC, 16-Leads, Body 10.3x7.5mm, Pitch 1.27mm, IPC Medium Density)
footprint MAXM-W16+2_L (SOIC, 16-Leads, Body 10.3x7.5mm, Pitch 1.27mm, IPC High Density)
footprint MAXM-W16+2_M (SOIC, 16-Leads, Body 10.3x7.5mm, Pitch 1.27mm, IPC Low Density)
pins: 1 VB (power) "Substrate Bias Voltage", 2 NC "No Internal Connection", 3 H1 "High End of Resistor", 4 L1 "Low End of Resistor", 5 W1 "Wiper Terminal of Resistor", 6 ~{RST} (in) "Serial Port Reset Input", 7 CLK (in) "Serial Port Clock Input", 8 GND (power) "Ground Connections", 9 DQ (in) "Serial Port Data Input", 10 COUT (out) "Cascade Port Output", 11 L0 "Low End of Resistor", 12 H0 "High End of Resistor", 13 W0 "Wiper Terminal of Resistor", 14 SOUT (out) "Stacked Configuration Output", 15 NC "No Internal Connection", 16 VCC (power) "+5 Volt Supply"

## DS1868S-050/T&R
designator U?
Dual Digital Potentiometer Chip with 3-Wire Serial Control Interface, Volatile, Linear Taper, 256 Steps, -40 to 85 degC, 16-pin SOIC (W16-2), Tape and Reel; PartNumber: DS1868S-050/T&R; DatasheetVersion: Rev. 1; PackageVersion: Rev. F, 10/2012; PackageReference: W16-2; PackageDescription: 16-Pin Small-Outline IC, Wide (0.3in) (W16-2), Body 10.3 x 7.5 mm, Pitch 1.27 mm; Supplier 1: Digi-Key; Supplier Part Number 1: DS1868S-050/T&R-ND; Supplier 2: Mouser; Supplier Part Number 2: N/A; Control Interface: 3-Wire Serial; Mounting Technology: Surface Mount; Code_JEDEC: MS013; ComponentLink1Description: Manufacturer URL; ComponentLink1URL: http://www.maximintegrated.com/; ComponentLink2Description: Datasheet; ComponentLink2URL: http://datasheets.maximintegrated.com/en/ds/DS1868.pdf; ComponentLink3Description: Package Specification; ComponentLink3URL: http://pdfserv.maximintegrated.com/package_dwgs/21-0042.PDF
footprint MAXM-W16-2_N (SOIC, 16-Leads, Body 10.3x7.5mm, Pitch 1.27mm, IPC Medium Density)
footprint MAXM-W16-2_L (SOIC, 16-Leads, Body 10.3x7.5mm, Pitch 1.27mm, IPC High Density)
footprint MAXM-W16-2_M (SOIC, 16-Leads, Body 10.3x7.5mm, Pitch 1.27mm, IPC Low Density)
pins: 1 VB (power) "Substrate Bias Voltage", 2 NC "No Internal Connection", 3 H1 "High End of Resistor", 4 L1 "Low End of Resistor", 5 W1 "Wiper Terminal of Resistor", 6 ~{RST} (in) "Serial Port Reset Input", 7 CLK (in) "Serial Port Clock Input", 8 GND (power) "Ground Connections", 9 DQ (in) "Serial Port Data Input", 10 COUT (out) "Cascade Port Output", 11 L0 "Low End of Resistor", 12 H0 "High End of Resistor", 13 W0 "Wiper Terminal of Resistor", 14 SOUT (out) "Stacked Configuration Output", 15 NC "No Internal Connection", 16 VCC (power) "+5 Volt Supply"

## DS1868S-100
designator U?
Dual Digital Potentiometer Chip with 3-Wire Serial Control Interface, Volatile, Linear Taper, 256 Steps, -40 to 85 degC, 16-pin SOIC (W16-2); PartNumber: DS1868S-100; DatasheetVersion: Rev. 1; PackageVersion: Rev. F, 10/2012; PackageReference: W16-2; PackageDescription: 16-Pin Small-Outline IC, Wide (0.3in) (W16-2), Body 10.3 x 7.5 mm, Pitch 1.27 mm; Supplier 1: Digi-Key; Supplier Part Number 1: DS1868S-100-ND; Supplier 2: Mouser; Supplier Part Number 2: N/A; Control Interface: 3-Wire Serial; Mounting Technology: Surface Mount; Code_JEDEC: MS013; ComponentLink1Description: Manufacturer URL; ComponentLink1URL: http://www.maximintegrated.com/; ComponentLink2Description: Datasheet; ComponentLink2URL: http://datasheets.maximintegrated.com/en/ds/DS1868.pdf; ComponentLink3Description: Package Specification; ComponentLink3URL: http://pdfserv.maximintegrated.com/package_dwgs/21-0042.PDF
footprint MAXM-W16-2_N (SOIC, 16-Leads, Body 10.3x7.5mm, Pitch 1.27mm, IPC Medium Density)
footprint MAXM-W16-2_L (SOIC, 16-Leads, Body 10.3x7.5mm, Pitch 1.27mm, IPC High Density)
footprint MAXM-W16-2_M (SOIC, 16-Leads, Body 10.3x7.5mm, Pitch 1.27mm, IPC Low Density)
pins: 1 VB (power) "Substrate Bias Voltage", 2 NC "No Internal Connection", 3 H1 "High End of Resistor", 4 L1 "Low End of Resistor", 5 W1 "Wiper Terminal of Resistor", 6 ~{RST} (in) "Serial Port Reset Input", 7 CLK (in) "Serial Port Clock Input", 8 GND (power) "Ground Connections", 9 DQ (in) "Serial Port Data Input", 10 COUT (out) "Cascade Port Output", 11 L0 "Low End of Resistor", 12 H0 "High End of Resistor", 13 W0 "Wiper Terminal of Resistor", 14 SOUT (out) "Stacked Configuration Output", 15 NC "No Internal Connection", 16 VCC (power) "+5 Volt Supply"

## DS1868S-100+
designator U?
Dual Digital Potentiometer Chip with 3-Wire Serial Control Interface, Volatile, Linear Taper, 256 Steps, -40 to 85 degC, 16-pin SOIC (W16+2), Pb-Free; PartNumber: DS1868S-100+; DatasheetVersion: Rev. 1; PackageVersion: Rev. F, 10/2012; PackageReference: W16+2; PackageDescription: 16-Pin Small-Outline IC, Wide (0.3in) (W16+2), Body 10.3 x 7.5 mm, Pitch 1.27 mm; Supplier 1: Digi-Key; Supplier Part Number 1: DS1868S-100+-ND; Supplier 2: Mouser; Supplier Part Number 2: 700-DS1868S-100; Control Interface: 3-Wire Serial; Mounting Technology: Surface Mount; Code_JEDEC: MS013; ComponentLink1Description: Manufacturer URL; ComponentLink1URL: http://www.maximintegrated.com/; ComponentLink2Description: Datasheet; ComponentLink2URL: http://datasheets.maximintegrated.com/en/ds/DS1868.pdf; ComponentLink3Description: Package Specification; ComponentLink3URL: http://pdfserv.maximintegrated.com/package_dwgs/21-0042.PDF
footprint MAXM-W16+2_N (SOIC, 16-Leads, Body 10.3x7.5mm, Pitch 1.27mm, IPC Medium Density)
footprint MAXM-W16+2_L (SOIC, 16-Leads, Body 10.3x7.5mm, Pitch 1.27mm, IPC High Density)
footprint MAXM-W16+2_M (SOIC, 16-Leads, Body 10.3x7.5mm, Pitch 1.27mm, IPC Low Density)
pins: 1 VB (power) "Substrate Bias Voltage", 2 NC "No Internal Connection", 3 H1 "High End of Resistor", 4 L1 "Low End of Resistor", 5 W1 "Wiper Terminal of Resistor", 6 ~{RST} (in) "Serial Port Reset Input", 7 CLK (in) "Serial Port Clock Input", 8 GND (power) "Ground Connections", 9 DQ (in) "Serial Port Data Input", 10 COUT (out) "Cascade Port Output", 11 L0 "Low End of Resistor", 12 H0 "High End of Resistor", 13 W0 "Wiper Terminal of Resistor", 14 SOUT (out) "Stacked Configuration Output", 15 NC "No Internal Connection", 16 VCC (power) "+5 Volt Supply"

## DS1868S-100+T&R
designator U?
Dual Digital Potentiometer Chip with 3-Wire Serial Control Interface, Volatile, Linear Taper, 256 Steps, -40 to 85 degC, 16-pin SOIC (W16+2), Pb-Free, Tape and Reel; PartNumber: DS1868S-100+T&R; DatasheetVersion: Rev. 1; PackageVersion: Rev. F, 10/2012; PackageReference: W16+2; PackageDescription: 16-Pin Small-Outline IC, Wide (0.3in) (W16+2), Body 10.3 x 7.5 mm, Pitch 1.27 mm; Supplier 1: Digi-Key; Supplier Part Number 1: DS1868S-100+T&R-ND; Supplier 2: Mouser; Supplier Part Number 2: 700-DS1868S-100T&R; Control Interface: 3-Wire Serial; Mounting Technology: Surface Mount; Code_JEDEC: MS013; ComponentLink1Description: Manufacturer URL; ComponentLink1URL: http://www.maximintegrated.com/; ComponentLink2Description: Datasheet; ComponentLink2URL: http://datasheets.maximintegrated.com/en/ds/DS1868.pdf; ComponentLink3Description: Package Specification; ComponentLink3URL: http://pdfserv.maximintegrated.com/package_dwgs/21-0042.PDF
footprint MAXM-W16+2_N (SOIC, 16-Leads, Body 10.3x7.5mm, Pitch 1.27mm, IPC Medium Density)
footprint MAXM-W16+2_L (SOIC, 16-Leads, Body 10.3x7.5mm, Pitch 1.27mm, IPC High Density)
footprint MAXM-W16+2_M (SOIC, 16-Leads, Body 10.3x7.5mm, Pitch 1.27mm, IPC Low Density)
pins: 1 VB (power) "Substrate Bias Voltage", 2 NC "No Internal Connection", 3 H1 "High End of Resistor", 4 L1 "Low End of Resistor", 5 W1 "Wiper Terminal of Resistor", 6 ~{RST} (in) "Serial Port Reset Input", 7 CLK (in) "Serial Port Clock Input", 8 GND (power) "Ground Connections", 9 DQ (in) "Serial Port Data Input", 10 COUT (out) "Cascade Port Output", 11 L0 "Low End of Resistor", 12 H0 "High End of Resistor", 13 W0 "Wiper Terminal of Resistor", 14 SOUT (out) "Stacked Configuration Output", 15 NC "No Internal Connection", 16 VCC (power) "+5 Volt Supply"

## DS1868S-100/T&R
designator U?
Dual Digital Potentiometer Chip with 3-Wire Serial Control Interface, Volatile, Linear Taper, 256 Steps, -40 to 85 degC, 16-pin SOIC (W16-2), Tape and Reel; PartNumber: DS1868S-100/T&R; DatasheetVersion: Rev. 1; PackageVersion: Rev. F, 10/2012; PackageReference: W16-2; PackageDescription: 16-Pin Small-Outline IC, Wide (0.3in) (W16-2), Body 10.3 x 7.5 mm, Pitch 1.27 mm; Supplier 1: Mouser; Supplier Part Number 1: N/A; Control Interface: 3-Wire Serial; Mounting Technology: Surface Mount; Code_JEDEC: MS013; ComponentLink1Description: Manufacturer URL; ComponentLink1URL: http://www.maximintegrated.com/; ComponentLink2Description: Datasheet; ComponentLink2URL: http://datasheets.maximintegrated.com/en/ds/DS1868.pdf; ComponentLink3Description: Package Specification; ComponentLink3URL: http://pdfserv.maximintegrated.com/package_dwgs/21-0042.PDF
footprint MAXM-W16-2_N (SOIC, 16-Leads, Body 10.3x7.5mm, Pitch 1.27mm, IPC Medium Density)
footprint MAXM-W16-2_L (SOIC, 16-Leads, Body 10.3x7.5mm, Pitch 1.27mm, IPC High Density)
footprint MAXM-W16-2_M (SOIC, 16-Leads, Body 10.3x7.5mm, Pitch 1.27mm, IPC Low Density)
pins: 1 VB (power) "Substrate Bias Voltage", 2 NC "No Internal Connection", 3 H1 "High End of Resistor", 4 L1 "Low End of Resistor", 5 W1 "Wiper Terminal of Resistor", 6 ~{RST} (in) "Serial Port Reset Input", 7 CLK (in) "Serial Port Clock Input", 8 GND (power) "Ground Connections", 9 DQ (in) "Serial Port Data Input", 10 COUT (out) "Cascade Port Output", 11 L0 "Low End of Resistor", 12 H0 "High End of Resistor", 13 W0 "Wiper Terminal of Resistor", 14 SOUT (out) "Stacked Configuration Output", 15 NC "No Internal Connection", 16 VCC (power) "+5 Volt Supply"

## DS1870E-010
designator U?
LDMOS RF Power-Amplifier Bias Controller with 2-Wire Control Interface, Non-Volatile, Linear Taper, 256 Steps, -40 to 85 degC, 16-pin TSSOP (U16-1); PartNumber: DS1870E-010; DatasheetVersion: Rev. 2; PackageVersion: Rev. L, 07/2010; PackageReference: U16-1; PackageDescription: 16-Pin Thin Shrink Small-Outline Package (U16-1), Body 5 x 4.4 mm, Pitch 0.65 mm; Supplier 1: Mouser; Supplier Part Number 1: N/A; Control Interface: 2-Wire; Features: 12-bit ADC, 32-Byte User EEPROM ,Dual Temp controlled pots ,EEPROM Wiper Memory; Mounting Technology: Surface Mount; Code_JEDEC: MO-153; ComponentLink1Description: Manufacturer URL; ComponentLink1URL: http://www.maximintegrated.com/; ComponentLink2Description: Datasheet; ComponentLink2URL: http://datasheets.maximintegrated.com/en/ds/DS1870.pdf; ComponentLink3Description: Package Specification; ComponentLink3URL: http://pdfserv.maximintegrated.com/package_dwgs/21-0066.PDF
footprint MAXM-U16-1_N (SOP, 16-Leads, Body 5x4.4mm, Pitch 0.65mm, IPC Medium Density)
footprint MAXM-U16-1_L (SOP, 16-Leads, Body 5x4.4mm, Pitch 0.65mm, IPC High Density)
footprint MAXM-U16-1_M (SOP, 16-Leads, Body 5x4.4mm, Pitch 0.65mm, IPC Low Density)
pins: 1 L1 "Potentiometer 1 Low Terminal", 2 W1 "Potentiometer 1 Wiper Terminal", 3 W2 "Potentiometer 2 Wiper Terminal", 4 L2 "Potentiometer 2 Low Terminal", 5 ID1 (in) "Drain Current 1 Monitor Input", 6 ID2 (in) "Drain Current 2 Monitor Input", 7 VD (power) "Drain Voltage Monitor Input", 8 GND (power) "Ground", 9 FAULT (oc) "Fault Output. This open-collector output is active high when one of the enabled alarms is outside its programmable limit value.", 10 A0 (in) "I2C Address Inputs. These inputs determine the slave address of the device. The slave address in binary is 1010A2A1A0.", 11 A1 (in) "I2C Address Inputs. These inputs determine the slave address of the device. The slave address in binary is 1010A2A1A0.", 12 A2 (in) "I2C Address Inputs. These inputs determine the slave address of the device. The slave address in binary is 1010A2A1A0.", 13 SCL (in) "Serial Clock Input. I2C clock input.", 14 SDA (io) "Serial Data Input/Output. Bidirectional I2C data pin.", 15 HCOM "Potentiometer High Terminal. Common to potentiometers 1 and 2.", 16 VCC (power) "Power Input"

## DS1870E-010+
designator U?
LDMOS RF Power-Amplifier Bias Controller with 2-Wire Control Interface, Non-Volatile, Linear Taper, 256 Steps, -40 to 85 degC, 16-pin TSSOP (U16+1), Pb-Free; PartNumber: DS1870E-010+; DatasheetVersion: Rev. 2; PackageVersion: Rev. L, 07/2010; PackageReference: U16+1; PackageDescription: 16-Pin Thin Shrink Small-Outline Package (U16+1), Body 5 x 4.4 mm, Pitch 0.65 mm; Supplier 1: Digi-Key; Supplier Part Number 1: DS1870E-010+-ND; Supplier 2: Mouser; Supplier Part Number 2: 700-DS1870E-010; Control Interface: 2-Wire; Features: 12-bit ADC, 32-Byte User EEPROM ,Dual Temp controlled pots ,EEPROM Wiper Memory; Mounting Technology: Surface Mount; Code_JEDEC: MO-153; ComponentLink1Description: Manufacturer URL; ComponentLink1URL: http://www.maximintegrated.com/; ComponentLink2Description: Datasheet; ComponentLink2URL: http://datasheets.maximintegrated.com/en/ds/DS1870.pdf; ComponentLink3Description: Package Specification; ComponentLink3URL: http://pdfserv.maximintegrated.com/package_dwgs/21-0066.PDF
footprint MAXM-U16+1_N (SOP, 16-Leads, Body 5x4.4mm, Pitch 0.65mm, IPC Medium Density)
footprint MAXM-U16+1_L (SOP, 16-Leads, Body 5x4.4mm, Pitch 0.65mm, IPC High Density)
footprint MAXM-U16+1_M (SOP, 16-Leads, Body 5x4.4mm, Pitch 0.65mm, IPC Low Density)
pins: 1 L1 "Potentiometer 1 Low Terminal", 2 W1 "Potentiometer 1 Wiper Terminal", 3 W2 "Potentiometer 2 Wiper Terminal", 4 L2 "Potentiometer 2 Low Terminal", 5 ID1 (in) "Drain Current 1 Monitor Input", 6 ID2 (in) "Drain Current 2 Monitor Input", 7 VD (power) "Drain Voltage Monitor Input", 8 GND (power) "Ground", 9 FAULT (oc) "Fault Output. This open-collector output is active high when one of the enabled alarms is outside its programmable limit value.", 10 A0 (in) "I2C Address Inputs. These inputs determine the slave address of the device. The slave address in binary is 1010A2A1A0.", 11 A1 (in) "I2C Address Inputs. These inputs determine the slave address of the device. The slave address in binary is 1010A2A1A0.", 12 A2 (in) "I2C Address Inputs. These inputs determine the slave address of the device. The slave address in binary is 1010A2A1A0.", 13 SCL (in) "Serial Clock Input. I2C clock input.", 14 SDA (io) "Serial Data Input/Output. Bidirectional I2C data pin.", 15 HCOM "Potentiometer High Terminal. Common to potentiometers 1 and 2.", 16 VCC (power) "Power Input"